# Altium schematic symbol library 3state BUFFER.SchLib: 1 symbol
Pins are listed as number, name and electrical type; pins without a type are passive.

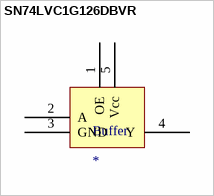
[diagram p0: symbol SN74LVC1G126DBVR]

## SN74LVC1G126DBVR
designator Buffer
Buffers & Line Drivers Single Bus Buffer
footprint PCBComponent_4
pins: 1 OE, 2 A, 3 GND, 4 Y, 5 Vcc